# Altium footprint library STC封装库.PCBLIB: 22 footprints (part 2 of 2)
Each footprint in its own frame and in the unit in brackets; x right, y up, seen from the top. Pads: shape width x height; smd on the part's side, far side on the other; paste and mask are expansions set on the pad; w line width, h text height; cw(c..) or ccw(c..) is an arc to the next point about the centre after c.
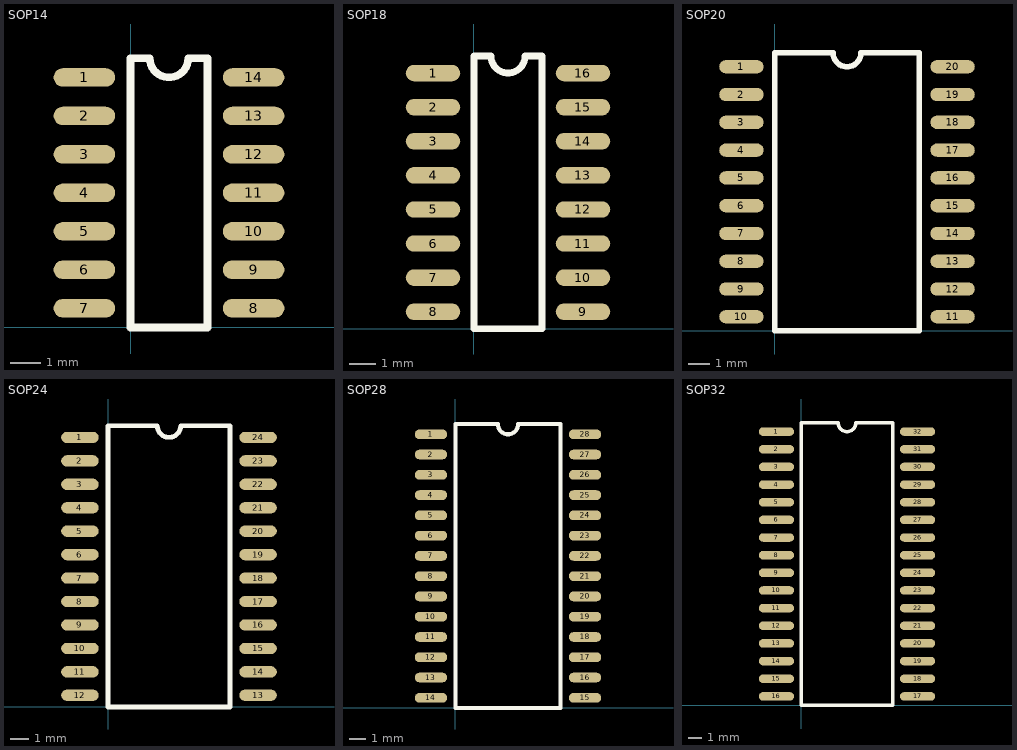
[diagram p1: the footprints below, top view; thin cyan lines are the x and y axes]

## SOP14 [mil] "STC"
pads (14):
  oval 80x24 smd: 1(-60,325) 2(-60,275) 3(-60,225) 4(-60,175) 5(-60,125) 6(-60,75) 7(-60,25) 8(160,25) 9(160,75) 10(160,125) 11(160,175) 12(160,225) 13(160,275) 14(160,325)
Top Overlay:
  lines w10: 0,0 100,0 100,350 75,350 cw(c50,350) 25,350 0,350 0,0

## SOP18 [mil] "STC"
pads (16):
  oval 80x24 smd: 1(-60,375) 2(-60,325) 3(-60,275) 4(-60,225) 5(-60,175) 6(-60,125) 7(-60,75) 8(-60,25) 9(160,25) 10(160,75) 11(160,125) 12(160,175) 13(160,225) 14(160,275) 15(160,325) 16(160,375)
Top Overlay:
  lines w10: 0,0 0,400 25,400 ccw(c50,400) 75,400 100,400 100,0 0,0

## SOP20 [mil] "STC"
pads (20):
  oval 80x24 smd: 1(-60,475) 2(-60,425) 3(-60,375) 4(-60,325) 5(-60,275) 6(-60,225) 7(-60,175) 8(-60,125) 9(-60,75) 10(-60,25) 11(320,25) 12(320,75) 13(320,125) 14(320,175) 15(320,225) 16(320,275) 17(320,325) 18(320,375) 19(320,425) 20(320,475)
Top Overlay:
  lines w10: 0,0 0,500 105,500 ccw(c130,500) 155,500 260,500 260,0 0,0

## SOP24 [mil] "STC"
pads (24):
  oval 80x24 smd: 1(-60,575) 2(-60,525) 3(-60,475) 4(-60,425) 5(-60,375) 6(-60,325) 7(-60,275) 8(-60,225) 9(-60,175) 10(-60,125) 11(-60,75) 12(-60,25) 13(320,25) 14(320,75) 15(320,125) 16(320,175) 17(320,225) 18(320,275) 19(320,325) 20(320,375) 21(320,425) 22(320,475) 23(320,525) 24(320,575)
Top Overlay:
  lines w10: 0,0 260,0 260,600 155,600 cw(c130,600) 105,600 0,600 0,0

## SOP28 [mil] "STC"
pads (28):
  oval 80x24 smd: 1(-60,675) 2(-60,625) 3(-60,575) 4(-60,525) 5(-60,475) 6(-60,425) 7(-60,375) 8(-60,325) 9(-60,275) 10(-60,225) 11(-60,175) 12(-60,125) 13(-60,75) 14(-60,25) 15(320,25) 16(320,75) 17(320,125) 18(320,175) 19(320,225) 20(320,275) 21(320,325) 22(320,375) 23(320,425) 24(320,475) 25(320,525) 26(320,575) 27(320,625) 28(320,675)
Top Overlay:
  lines w10: 0,0 0,700 105,700 ccw(c130,700) 155,700 260,700 260,0 0,0

## SOP32 [mil] "STC"
pads (32):
  oval 100x24 smd: 1(-70,775) 2(-70,725) 3(-70,675) 4(-70,625) 5(-70,575) 6(-70,525) 7(-70,475) 8(-70,425) 9(-70,375) 10(-70,325) 11(-70,275) 12(-70,225) 13(-70,175) 14(-70,125) 15(-70,75) 17(330,25) 18(330,75) 19(330,125) 20(330,175) 21(330,225) 22(330,275) 23(330,325) 24(330,375) 25(330,425) 26(330,475) 27(330,525) 28(330,575) 29(330,625) 30(330,675) 31(330,725) 32(330,775)
  oval 100x24 smd mask+4: 16(-70,25)
Top Overlay:
  lines w10: 0,0 260,0 260,800 155,800 cw(c130,800) 105,800 0,800 0,0